# Altium schematic symbol library Device.SchLib: 8 symbols
Pins are listed as number, name and electrical type; pins without a type are passive.

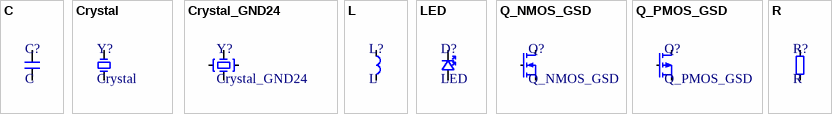
[diagram p0: symbols C to R]

## C
designator C?
Unpolarized capacitor
footprint C_0402_1005Metric
footprint C_0603_1608Metric
footprint C_0805_2012Metric
footprint C_1206_3216Metric
pins: 1, 2

## Crystal
designator Y?
Two pin crystal
footprint Crystal_SMD_3215-2Pin_3.2x1.5mm
pins: 1, 2

## Crystal_GND24
designator Y?
Four pin crystal, GND on pins 2 and 4
footprint Crystal_SMD_3225-4Pin_3.2x2.5mm
pins: 1, 2, 3, 4

## L
designator L?
Inductor, Choke coil, Reactor, Magnetic
footprint L_0402_1005Metric
footprint L_0603_1608Metric
footprint L_0805_2012Metric
footprint L_1206_3216Metric
footprint L_Murata_DFE201612P
pins: 1, 2

## LED
designator D?
Light emitting diode
footprint LED_0603_1608Metric
pins: 1 K, 2 A

## Q_NMOS_GSD
designator Q?
N-MOSFET transistor, gate/source/drain
footprint SOT-23-3
pins: 1 G, 2 S, 3 D

## Q_PMOS_GSD
designator Q?
P-MOSFET transistor, gate/source/drain
footprint SOT-23-3
pins: 1 G, 2 S, 3 D

## R
designator R?
Resistor
footprint R_0402_1005Metric
footprint R_0603_1608Metric
footprint R_0805_2012Metric
footprint R_1206_3216Metric
pins: 1, 2